# Altium schematic symbol library SENSOR_TMP235A4DCKR.Schlib: 1 symbol
Pins are listed as number, name and electrical type; pins without a type are passive.

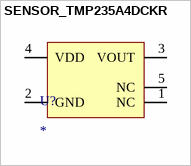
[diagram p0: symbol SENSOR_TMP235A4DCKR]

## SENSOR_TMP235A4DCKR
designator U?
pins: 1 NC, 2 GND, 3 VOUT, 4 VDD, 5 NC